# EAGLE library part AD745 (library opamps)
AD745: Low noise BiFET opamp (Analog Devices) ±15V, ±20mA, 400pA bias 1mV offset, 20MHz UGF, 5nV/rt(Hz) noise
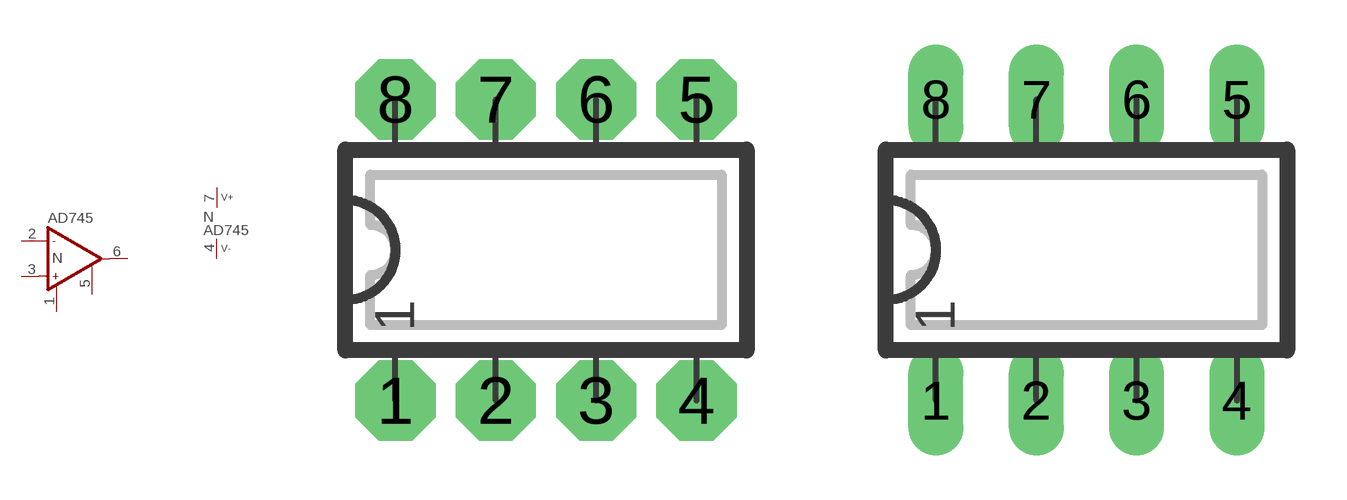
[diagram p39: symbol with the pads of DIP08N; footprints DIP08N, DIP08L]

Designator prefix N; gates A=OP_C P=V+-

## AD745N  [DIP08N]
1  A:OPC1
2  A:IN-  in
3  A:IN+  in
4  P:V-  pwr
5  A:OPC2
6  A:OUT  out
7  P:V+  pwr

## AD745L  [DIP08L]
Pads as for DIP08N

## AD745R  [DIP08R]
Pads as for DIP08N

## AD745  [DIP08L]
Pads as for DIP08N

## AD745S  [SO16W]
2  A:OPC1
3  A:IN-  in
5  A:IN+  in
6  P:V-  pwr
11  A:OPC2
12  A:OUT  out
13  P:V+  pwr

## Footprint DIP08N (pad centres in mm)
DIP-8 Standard IC package, 8 pins
drill 0.813 pad 2.032 octagon: 1 -3.81,-3.81; 2 -1.27,-3.81; 3 1.27,-3.81; 4 3.81,-3.81; 5 3.81,3.81; 6 1.27,3.81; 7 -1.27,3.81; 8 -3.81,3.81

## Footprint DIP08L (pad centres in mm)
DIP-8, long pads Standard IC package, 8 pins
drill 0.813 pad 1.397 long: 1 -3.81,-3.81; 2 -1.27,-3.81; 3 1.27,-3.81; 4 3.81,-3.81; 5 3.81,3.81; 6 1.27,3.81; 7 -1.27,3.81; 8 -3.81,3.81

## Footprint DIP08R (pad centres in mm)
DIP-8, reduced pads Standard IC package, 8 pins
drill 0.813 pad 1.397 square: 1 -3.81,-3.81; 2 -1.27,-3.81; 3 1.27,-3.81; 4 3.81,-3.81; 5 3.81,3.81; 6 1.27,3.81; 7 -1.27,3.81; 8 -3.81,3.81

## Footprint SO16W (pad centres in mm)
SO-16 wide, SMD SOIC IC package (0.3" wide), 16 pins
smd 0.635 x 1.778: 1 -4.445,-4.763; 2 -3.175,-4.763; 3 -1.905,-4.763; 4 -0.635,-4.763; 5 0.635,-4.763; 6 1.905,-4.763; 7 3.175,-4.763; 8 4.445,-4.763; 9 4.445,4.763; 10 3.175,4.763; 11 1.905,4.763; 12 0.635,4.763; 13 -0.635,4.763; 14 -1.905,4.763; 15 -3.175,4.763; 16 -4.445,4.763